# EAGLE library part GROVE-CONNECTOR-4PIN (library BitsyExpander_v3.0_M4)
320110030
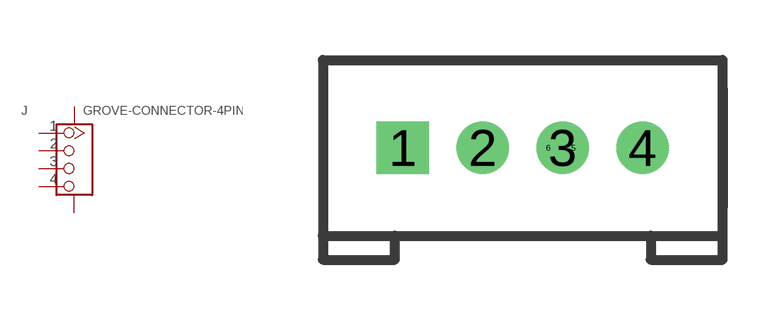
[diagram p5: symbol with the pads of HW4-PTH-2.0; footprint HW4-PTH-2.0]

Designator prefix J

## GROVE-CONNECTOR-4PINHW4-PTH-2.0 (VALUE: H4P-SMD-2.0)  [HW4-PTH-2.0]
1  1
2  2
3  3
4  4
5  SS1
6  SS2

## Footprint HW4-PTH-2.0 (pad centres in mm)
drill 0.8 pad 1.27 square: 1 -3,3.5
drill 0.8 pad 1.27: 2 -1,3.5; 3 1,3.5; 4 3,3.5
smd 0 x 0: 5 1.27,3.5; 6 0.635,3.5